# Altium integrated library PCB_Project_5.IntLib: 26 symbols
Pins are listed as number, name and electrical type; pins without a type are passive.

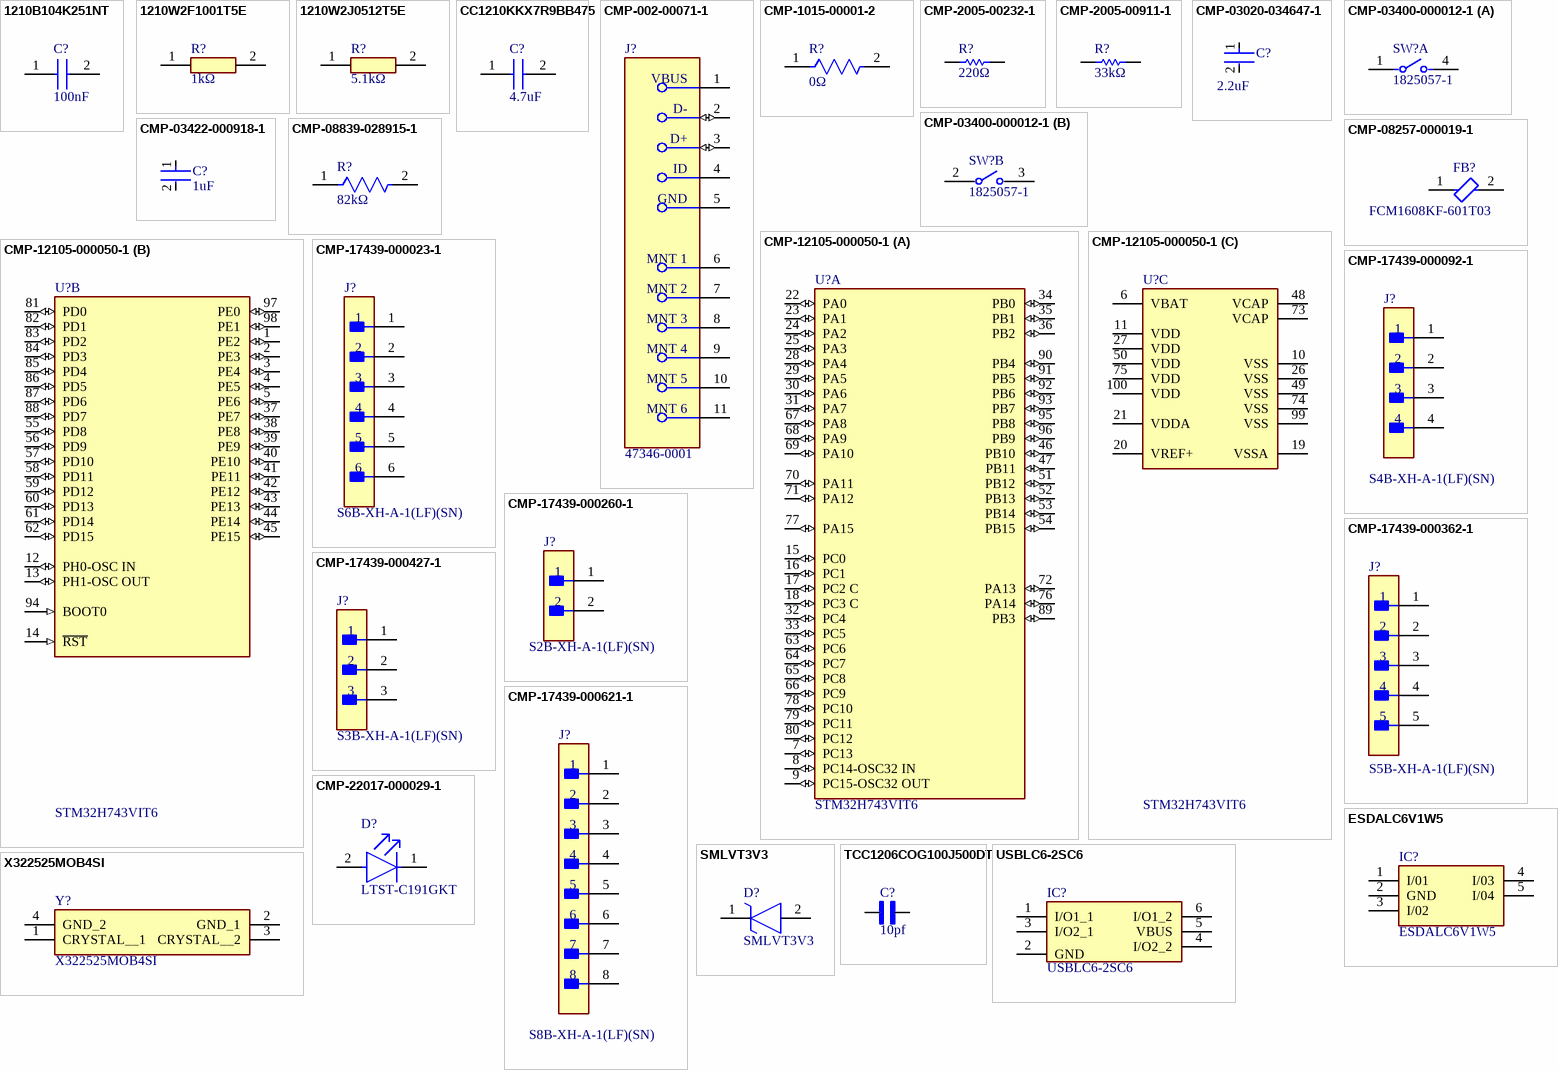
[diagram p0: symbols 1210B104K251NT to X322525MOB4SI]

## 1210B104K251NT
designator C?, comment 100nF
Capacitor; Manufacturer_Name: Knowles; Manufacturer_Part_Number: 1210B104K251NT; Datasheet Link: https://www.knowlescapacitors.com/Tools/SearchParts#; Height: 1.65mm; Mouser Part Number: 843-1210B104K251NT; Mouser Price/Stock: https://www.mouser.co.uk/ProductDetail/Knowles-Syfer/1210B104K251NT?qs=GedFDFLaBXGPUNqsZceMXA%3D%3D
footprint CAPC3225X165N
pins: 1, 2

## 1210W2F1001T5E
designator R?, comment 1kΩ
Resistor; Manufacturer_Name: UNI-ROYAL(Uniroyal Elec); Manufacturer_Part_Number: 1210W2F1001T5E; Datasheet Link: https://datasheet.lcsc.com/szlcsc/1903221131_Uniroyal-Elec-1210W2F1001T5E_C52444.pdf; Height: 0.65mm
footprint RESC3126X65N
pins: 1, 2

## 1210W2J0512T5E
designator R?, comment 5.1kΩ
Resistor; Manufacturer_Name: UNI-ROYAL(Uniroyal Elec); Manufacturer_Part_Number: 1210W2J0512T5E; Datasheet Link: https://datasheet.lcsc.com/szlcsc/Uniroyal-Elec-1210W3J0512T5E_C26061.pdf; Height: 0.65mm
footprint RESC3126X65N
pins: 1, 2

## CC1210KKX7R9BB475
designator C?, comment 4.7uF
Capacitor; Manufacturer_Name: Yageo Group; Manufacturer_Part_Number: CC1210KKX7R9BB475; Datasheet Link: https://www.yageogroup.com/download/specsheet/CC1210KKX7R9BB475; Height: 2.8mm; Mouser Part Number: 603-CC210KKX7R9BB475; Mouser Price/Stock: https://www.mouser.co.uk/ProductDetail/YAGEO/CC1210KKX7R9BB475?qs=aeOb9a4xWfmj7VddaQHCGg%3D%3D; Arrow Part Number: CC1210KKX7R9BB475; Arrow Price/Stock: https://www.arrow.com/en/products/cc1210kkx7r9bb475/yageo?region=nac
footprint CAPC3225X280N
pins: 1, 2

## CMP-002-00071-1
designator J?, comment 47346-0001
Micro-USB B Receptacle with Flange, Bottom Mount, Surface Mount, Lead-Free; Manufacturer: Molex; Connector Type: Receptacle, USB; Gender: Female; Voltage Rating: 30V; Min Operating Temperature: -30°C; Pins: 6; Max Operating Temperature: 85°C; Mounting Technology: Surface Mount; Manufacturer Part Number: 47346-0001; Component Type: Connectors
footprint FP-473460001-MFG
pins: 1 VBUS (power), 2 D- (io), 3 D+ (io), 4 ID, 5 GND (power), 6 MNT 1, 7 MNT 2, 8 MNT 3, 9 MNT 4, 10 MNT 5, 11 MNT 6

## CMP-1015-00001-2
designator R?, comment 0Ω
RC1210JR-070RL          RES 0 OHM JUMPER 1/2W 1210; Max Power Dissipation: 500mW; Voltage Rating: 200V; Temperature Coefficient: 200ppm/°C; Tolerance: 5%; Resistance: 0mR; Case Code (Metric): 3225; Termination: SMD/SMT; Package Quantity: 5000; Width: 0.102inch; Contact Plating: Tin; Features: Moisture Resistant; Number of Terminations: 2; Mount: Surface Mount; Height: 0.5mm; Min Operating Temperature: -55°C; RoHS Compliant: Yes; Series: RC; Max Operating Temperature: 155°C; Length: 3.1mm; Radiation Hardening: No; Technology: THICK FILM; Case Code (Imperial): 1210; Construction: Rectangular; Lead Free: Lead Free; Resistor Type: Thick Film; Case/Package: 1210; Depth: 2.6mm; Packaging: Tape and Reel; Size Code: 1210; Military Standard: Not; Power Rating: 500mW
footprint FP-RC1210-0_65-IPC_A
footprint FP-RC1210-0_65-IPC_C
footprint FP-RC1210-0_65-MFG
footprint FP-RC1210-0_65-IPC_B
pins: 1, 2

## CMP-2005-00232-1
designator R?, comment 220Ω
Manufacturer: Vishay Dale; Part Number: CRCW1210220RJNEAHP
footprint RESC3225X60X45LL20T20 (Chip Resistor, 2-Leads, Body 3.20x2.50mm, IPC High Density)
footprint RESC3225X60X45ML20T20 (Chip Resistor, 2-Leads, Body 3.20x2.50mm, IPC Low Density)
footprint RESC3225X60X45NL20T20 (Chip Resistor, 2-Leads, Body 3.20x2.50mm, IPC Medium Density)
pins: 1, 2
1 alternate drawing of the same symbol

## CMP-2005-00911-1
designator R?, comment 33kΩ
RC1210JR-0733KL; Manufacturer: Yageo; Part Number: RC1210JR-0733KL
footprint RESC3126X60X50ML10T20 (Chip Resistor, 2-Leads, Body 3.10x2.60mm, IPC Low Density)
footprint RESC3126X60X50LL10T20 (Chip Resistor, 2-Leads, Body 3.10x2.60mm, IPC High Density)
footprint RESC3126X60X50NL10T20 (Chip Resistor, 2-Leads, Body 3.10x2.60mm, IPC Medium Density)
pins: 1, 2
1 alternate drawing of the same symbol

## CMP-03020-034647-1
designator C?, comment 2.2uF
C1210C225K1RACAUTOCAP CER 2.2UF 100V X7R 1210; Tolerance: 10%; Dielectric Material: Ceramic; Capacitance: 2.2uF; Voltage Rating: 100V; Length: 0.126inch; REACH SVHC: No SVHC; Width: 0.098inch; Mount: Surface Mount; Case/Package: 1210; Dielectric: X7R; Min Operating Temperature: -55°C; Case Code (Metric): 3225; RoHS Compliant: Yes; Packaging: Cut Tape; Case Code (Imperial): 1210; Ratings: AEC-Q200; Max Operating Temperature: 125°C; Voltage Rating (DC): 100V
footprint FP-C1210C225K1RACAUTO-MFG
footprint FP-C1210C225K1RACAUTO-IPC_C
footprint FP-C1210C225K1RACAUTO-IPC_B
footprint FP-C1210C225K1RACAUTO-IPC_A
pins: 1, 2

## CMP-03400-000012-1
designator SW?, comment 1825057-1
SWITCH SLIDE DIP SPST 100MA 24V; Manufacturer: TE Connectivity; Contact Resistance: 50mΩ; Electromechanical Life: 1000Cycles; Standoff Height: 1.3mm; Number Of Circuits: 2; Contact Current Rating: 100mA; ComponentLink2URL: https://www.te.com/commerce/DocumentDelivery/DDEController?Action=srchrtrv&DocNm=1825057&DocType=Customer+Drawing&DocLang=English; Digikey Description: SWITCH SLIDE DIP SPST 100MA 24V; Temperature: -30°C to +85°C; Lead Free: Yes; ComponentLink2Description: Datasheet; Octopart: https://octopart.com/1825057-1-te+connectivity-46507313; Manufacturer Part Number: 1825057-1; Automotive: No; Voltage Rating Dc: 24V; RoHS: TRUE; Package: 1825057-1; Device Class L1: Electromechanical; Temperature Range Low: -30°C; Device Class L2: Switches; Mount: Through Hole; Device Class L3: DIP Switches; Height: 6.15mm; Category: Switch; Temperature Range High: +85°C; Throw Configuration: SPST
footprint FP-1825057-1-MFG
part A pins: 1, 4
part B pins: 2, 3

## CMP-03422-000918-1
designator C?, comment 1uF
CAP CER 1UF 50V X7R 1210; Manufacturer Part Number: CC1210KKX7R9BB105; Manufacturer: Yageo; Temperature Coefficient: 15%; Material: Ceramic; Tolerance: 10%; RoHS: TRUE; Digikey Description: CAP CER 1UF 50V X7R 1210; Device Class L1: Passive Components; Temperature Range Low: -55°C; Value: 1uF; ComponentLink2Description: Datasheet; Temperature Characteristic: X7R; Capacitance: 1uF; Temperature: -55°C to +125°C; ComponentLink2URL: http://www.yageo.com/documents/recent/UPY-GPHC_X7R_6.3V-to-50V_18.pdf; Lead Free: Yes; Device Class L3: Ceramic Capacitors; Device Class L2: Capacitors; Category: Cap; Temperature Range High: +125°C; Package: CC1210-GA; Mouser Description: 1210 1 uF 50 V ±10 % Tolerance X7R SMT Multilayer Ceramic Capacitor; Octopart: https://octopart.com/cc1210kkx7r9bb105-yageo-22054290; Height: 1.45mm; Voltage Rating: 50V; Ipc Land Pattern Name: CAPC320250X125; Automotive: No; Footprint Url: http://www.yageo.com/exep/pages/download/literatures/UPY-C_GEN_24.pdf
footprint FP-CC1210-GA-MFG
footprint FP-CC1210-GA-IPC_C
footprint FP-CC1210-GA-IPC_B
footprint FP-CC1210-GA-IPC_A
pins: 1, 2

## CMP-08257-000019-1
designator FB?, comment FCM1608KF-601T03
FCM1608KF-601T03 / FERRITE BEAD 120 OHM 0603 1LN; DC Resistance (DCR): 45mR; Test Frequency: 100MHz; Max Current Rating: 2A; Tolerance: 25%; Impedance: 120R; Number of Lines: 1; Weight: 7.1E-05oz; Height: 0.03inch; Package Quantity: 4000; Termination: SMD/SMT; Max Operating Temperature: 125°C; Packaging: Tape and Reel; Width: 0.031inch; Length: 0.063inch; Case/Package: 0603; RoHS Compliant: Yes; Case Code (Metric): 1608; Min Operating Temperature: -55°C; Max DC Current: 2A; Mount: Surface Mount; Case Code (Imperial): 0603; Ratings: AEC-Q200
footprint FP-MPZ1608-0_6-IPC_A
footprint FP-MPZ1608-0_6-IPC_C
footprint FP-MPZ1608-0_6-IPC_B
footprint FP-MPZ1608-0_6-MFG
pins: 1, 2

## CMP-08839-028915-1
designator R?, comment 82kΩ
ESR25JZPF8202   82kΩ ±1% 0.66W 1210 Anti-Surge Chip Resistor AEC-Q200; Resistance: 82kR; Temperature Coefficient: 100ppm/°C; Max Power Dissipation: 500mW; Number of Terminations: 2; Resistor Type: Thick Film; RoHS Compliant: Yes; Min Operating Temperature: -55°C; Width: 0.098inch; Case/Package: 1210; Series: ESR25; Packaging: Tape and Reel; Length: 0.126inch; Height: 0.026inch; Package Quantity: 4000; Max Operating Temperature: 155°C; Tolerance: 1%
footprint FP-ESR25-IPC_C
footprint FP-ESR25-IPC_A
footprint FP-ESR25-MFG
footprint FP-ESR25-IPC_B
pins: 1, 2

## CMP-12105-000050-1
designator U?, comment STM32H743VIT6
IC MCU 32BIT 2MB FLASH 100LQFP; Manufacturer: STMicroelectronics; Number Of Ethernet Channels: 1; Number Of Usb Channels: 2; Number Of A/D Converters: 3; Min Supply Voltage: 1.71V; Ram Size: 1060KBytes; Number Of I2C Channels: 4; Frequency: 480MHz; Number Of Adc Channels: 36; Number Of I/Os: 82; Max Supply Voltage: 3.6V; Number Of Spi Channels: 6; Memory Size: 2MBytes; Max Junction Temp: +125°C; Core Architecture: Arm Cortex-M7; Interface: I2C,SPI,UART,USART,USB,LIN,IrDA,Ethernet,I2S,Other; Number Of Timers/Counters: 20; Data Bus Width: 32bits; Number Of Pwm Channels: 42; Number Of Uart Channels: 9; Standoff Height: 0.05mm; Device Class L1: Integrated Circuits (ICs); ComponentLink2URL: https://www.st.com/resource/en/datasheet/stm32h743vi.pdf; Automotive: No; Memory Type: FLASH; Number Of Cores: 1; Temperature Range Low: -40°C; RoHS: TRUE; Ambient Temperature Range Low: -40°C; ComponentLink2Description: Datasheet; Device Class L2: Embedded Processors and Controllers; Device Class L3: Microcontrollers; Digikey Description: IC MCU 32BIT 2MB FLASH 100LQFP; Temperature Range High: +125°C; Ambient Temperature Range High: +85°C; Package: LQFP100-1L; Temperature: -40°C to +125°C; Category: IC; Ipc Land Pattern Name: QFP50P1600X1600X160-100; Height: 1.6mm; Manufacturer Part Number: STM32H743VIT6; Octopart: https://octopart.com/stm32h743vit6-stmicroelectronics-76372527; Lead Free: Yes
footprint FP-LQFP100-1L-MFG
footprint FP-LQFP100-1L-IPC_C
footprint FP-LQFP100-1L-IPC_B
footprint FP-LQFP100-1L-IPC_A
part A pins: 7 PC13 (io), 8 PC14-OSC32 IN (io), 9 PC15-OSC32 OUT (io), 15 PC0 (io), 16 PC1 (io), 17 PC2 C (io), 18 PC3 C (io), 22 PA0 (io), 23 PA1 (io), 24 PA2 (io), 25 PA3 (io), 28 PA4 (io), 29 PA5 (io), 30 PA6 (io), 31 PA7 (io), 32 PC4 (io), 33 PC5 (io), 34 PB0 (io), 35 PB1 (io), 36 PB2 (io), 46 PB10 (io), 47 PB11 (io), 51 PB12 (io), 52 PB13 (io), 53 PB14 (io), 54 PB15 (io), 63 PC6 (io), 64 PC7 (io), 65 PC8 (io), 66 PC9 (io), 67 PA8 (io), 68 PA9 (io), 69 PA10 (io), 70 PA11 (io), 71 PA12 (io), 72 PA13 (io), 76 PA14 (io), 77 PA15 (io), 78 PC10 (io), 79 PC11 (io), 80 PC12 (io), 89 PB3 (io), 90 PB4 (io), 91 PB5 (io), 92 PB6 (io), 93 PB7 (io), 95 PB8 (io), 96 PB9 (io)
part B pins: 1 PE2 (io), 2 PE3 (io), 3 PE4 (io), 4 PE5 (io), 5 PE6 (io), 12 PH0-OSC IN (io), 13 PH1-OSC OUT (io), 14 ~{RST} (in), 37 PE7 (io), 38 PE8 (io), 39 PE9 (io), 40 PE10 (io), 41 PE11 (io), 42 PE12 (io), 43 PE13 (io), 44 PE14 (io), 45 PE15 (io), 55 PD8 (io), 56 PD9 (io), 57 PD10 (io), 58 PD11 (io), 59 PD12 (io), 60 PD13 (io), 61 PD14 (io), 62 PD15 (io), 81 PD0 (io), 82 PD1 (io), 83 PD2 (io), 84 PD3 (io), 85 PD4 (io), 86 PD5 (io), 87 PD6 (io), 88 PD7 (io), 94 BOOT0 (in), 97 PE0 (io), 98 PE1 (io)
part C pins: 6 VBAT (power), 10 VSS (power), 11 VDD (power), 19 VSSA (power), 20 VREF+ (power), 21 VDDA (power), 26 VSS (power), 27 VDD (power), 48 VCAP, 49 VSS (power), 50 VDD (power), 73 VCAP, 74 VSS (power), 75 VDD (power), 99 VSS (power), 100 VDD (power)

## CMP-17439-000023-1
designator J?, comment S6B-XH-A-1(LF)(SN)
CONN HEADER R/A P6OS 2.5MM; Voltage Rating: 250V; Insulation Resistance: 1GR; Current Rating: 3A; Number of Positions: 6; Gender: Male; Mount: Through Hole; Material: Polyamide; Max Operating Temperature: 85°C; Contact Plating: Tin; Number of Rows: 1; Color: Natural; Termination: Crimp; Min Operating Temperature: -25°C; Pitch: 2.5mm; Lead Free: Lead Free; Contact Material: Brass
footprint FP-S6B-XH-A-1_LF_SN-MFG
pins: 1, 2, 3, 4, 5, 6

## CMP-17439-000092-1
designator J?, comment S4B-XH-A-1(LF)(SN)
Side Entry Connector Header, XH Series, 4 Position, 2.50mm, Through Hole, Press-Fit, Solder, Natural; Pitch: 2.5mm; Voltage Rating: 250V; Number of Positions: 4; Contact Shape: Square; Contact Type: Male Pin; Contact Material: Brass; Series: XH; Flammability Rating: UL94 V-0; Insulation Color: Natural; Lead Free: Lead Free; Number of Rows: 1; Mount: Through Hole; Packaging: Bulk; Fastening Type: Detent; Insulation Material: Nylon; Contact Finish - Mating: TIN; Connector Type: Header; Termination: Press-Fit
footprint FP-S4B-XH-A-1_LF_SN-MFG
pins: 1, 2, 3, 4

## CMP-17439-000260-1
designator J?, comment S2B-XH-A-1(LF)(SN)
CONN HEADER R/A 2POS 2.5MM; Voltage Rating: 250V; Number of Positions: 2; Contact Material: Brass; Series: XH; Contact Finish - Mating: TIN; Max Operating Temperature: 85°C; Number of Rows: 1; Packaging: Bulk; Insulation Color: Natural; Lead Free: Lead Free; Fastening Type: Detent; Termination: Press-Fit; Connector Type: Header; Insulation Material: Nylon; Contact Shape: Square; Contact Type: Male Pin; Mount: Through Hole; Min Operating Temperature: -25°C; Flammability Rating: UL94 V-0
footprint FP-S2B-XH-A-1_LF_SN-MFG
pins: 1, 2

## CMP-17439-000362-1
designator J?, comment S5B-XH-A-1(LF)(SN)
CONN HEADER R/A 5POS 2.5MM; Number of Positions: 5; Voltage Rating: 250V; Contact Shape: Square; Number of Rows: 1; Lead Free: Lead Free; Contact Material: Brass; Termination: Press-Fit; Connector Type: Header; Contact Finish - Mating: TIN; Insulation Color: Natural; Packaging: Bulk; Min Operating Temperature: -25°C; Series: XH; Mount: Through Hole; Contact Type: Male Pin; Insulation Material: Nylon; Max Operating Temperature: 85°C; Pitch: 2.5mm; Fastening Type: Detent; Flammability Rating: UL94 V-0
footprint FP-S5B-XH-A-1_LF_SN-MFG
pins: 1, 2, 3, 4, 5

## CMP-17439-000427-1
designator J?, comment S3B-XH-A-1(LF)(SN)
CONN HEADER R/A 3POS 2.5MM; Voltage Rating: 250V; Pitch: 0.098inch; Number of Positions: 3; Contact Finish - Mating: TIN; Mount: Through Hole; Lead Free: Lead Free; Termination: Press-Fit; Fastening Type: Detent; Insulation Material: Nylon; Min Operating Temperature: -25°C; Flammability Rating: UL94 V-0; Number of Rows: 1; Contact Plating: Tin; Max Operating Temperature: 85°C; Color: Natural; Package Quantity: 1000; Insulation Color: Natural; Contact Material: Brass; Series: XH; Connector Type: Header; Contact Shape: Square; Packaging: Bulk; Contact Type: Male Pin
footprint FP-S3B-XH-A-1_LF_SN-MFG
pins: 1, 2, 3

## CMP-17439-000621-1
designator J?, comment S8B-XH-A-1(LF)(SN)
CONN HEADER R/A 8POS 2.5MM; Voltage Rating: 250V; Number of Positions: 8; Flammability Rating: UL94 V-0; Fastening Type: Detent; Series: XH; Connector Type: Header; Min Operating Temperature: -25°C; Lead Free: Lead Free; Number of Rows: 1; Packaging: Bulk; Contact Shape: Square; Contact Type: Male Pin; Mount: Through Hole; Contact Finish - Mating: TIN; Insulation Material: Nylon; Insulation Color: Natural; Contact Material: Brass; Max Operating Temperature: 85°C; Termination: Press-Fit
footprint FP-S8B-XH-A-1_LF_SN-MFG
pins: 1, 2, 3, 4, 5, 6, 7, 8

## CMP-22017-000029-1
designator D?, comment LTST-C191GKT
LED GREEN CLEAR CHIP SMD; Power Dissipation: 100mW; Lens Color: Colorless; Number of Elements: 1; Dominant Wavelength: 569nm; Forward Voltage: 2.1V; Forward Current: 30mA; Test Current: 20mA; Viewing Angle: 130°; Wavelength: 565nm; Luminous Intensity: 12mcd; Reverse Voltage: 5V; Case/Package: 0603; Package Quantity: 1; Illumination Color: Green; Lens Style: Clear; Lens Transparency: Clear; Depth: 0.8mm; Power Rating: 100mW; Width: 0.8mm; Height: 0.55mm; Radiation Hardening: No; Case Code (Imperial): 0603; Number of Pins: 2; Length: 1.6mm; Case Code (Metric): 1608; Max Operating Temperature: 85°C; Color: Green; Packaging: Tape and Reel; Mount: Surface Mount; Min Operating Temperature: -55°C; Lead Free: Lead Free; Number of LEDs: 1
footprint FP-LTST-C191GKT-MFG
pins: 1 C, 2 A

## ESDALC6V1W5
designator IC?
Integrated Circuit; Manufacturer_Name: STMicroelectronics; Datasheet Link: https://www.st.com/resource/en/datasheet/esdalc6v1w.pdf; Height: 1.1mm; Manufacturer_Part_Number: ESDALC6V1W5; Mouser Part Number: 511-ESDALC6V1W5; Mouser Price/Stock: https://www.mouser.co.uk/ProductDetail/STMicroelectronics/ESDALC6V1W5?qs=C%2FEejvvdwQ4xcyFnfrFaDw%3D%3D; Arrow Part Number: ESDALC6V1W5; Arrow Price/Stock: https://www.arrow.com/en/products/esdalc6v1w5/stmicroelectronics?utm_currency=USD&region=nac
footprint SOT65P210X110-5N
pins: 1 I/01, 2 GND, 3 I/02, 4 I/03, 5 I/04

## SMLVT3V3
designator D?
TVS Diode (Uni-directional); Manufacturer_Name: STMicroelectronics; Datasheet Link: https://www.st.com/resource/en/datasheet/smlvt3v3.pdf; Height: 2.65mm; Manufacturer_Part_Number: SMLVT3V3; Mouser Part Number: 511-SMLVT3V3; Mouser Price/Stock: https://www.mouser.co.uk/ProductDetail/STMicroelectronics/SMLVT3V3?qs=sepekKm5O7kuWZ9%252BIWQuxQ%3D%3D; Arrow Part Number: SMLVT3V3; Arrow Price/Stock: https://www.arrow.com/en/products/smlvt3v3/stmicroelectronics?utm_currency=USD&region=europe
footprint DIOM5436X265N
pins: 1 K, 2 A

## TCC1206COG100J500DT
designator C?, comment 10pf
MF: CCTC; MP: TCC1206COG100J500DT; SnapEDA_Link: https://www.snapeda.com/parts/TCC1206COG100J500DT/CCTC/view-part/?ref=snap; Package: 1206-2 CCTC; Value: *; Check_prices: https://www.snapeda.com/parts/TCC1206COG100J500DT/CCTC/view-part/?ref=eda
footprint CAPC3216X95N
pins: 1, 2

## USBLC6-2SC6
designator IC?
Integrated Circuit; Manufacturer_Name: STMicroelectronics; Datasheet Link: https://www.st.com/resource/en/datasheet/usblc6-2.pdf; Height: 1.45mm; Manufacturer_Part_Number: USBLC6-2SC6; Mouser Part Number: 511-USBLC6-2SC6; Mouser Price/Stock: https://www.mouser.co.uk/ProductDetail/STMicroelectronics/USBLC6-2SC6?qs=po45yt2pPpu%2FhNIlwQdTlg%3D%3D; Arrow Part Number: USBLC6-2SC6; Arrow Price/Stock: https://www.arrow.com/en/products/usblc6-2sc6/stmicroelectronics.html?utm_currency=USD&region=nac
footprint SOT95P280X145-6N
pins: 1 I/O1_1, 2 GND, 3 I/O2_1, 4 I/O2_2, 5 VBUS, 6 I/O1_2

## X322525MOB4SI
designator Y?
Crystal or Oscillator; Manufacturer_Name: Yangxing Tech; Datasheet Link: https://datasheet.lcsc.com/szlcsc/Yangxing-Tech-X322525MOB4SI_C9006.pdf; Height: 0.8mm; Manufacturer_Part_Number: X322525MOB4SI
footprint X322525MOB4SI
pins: 1 CRYSTAL__1, 2 GND_1, 3 CRYSTAL__2, 4 GND_2